# EAGLE library part SDCARDMODULE (library ArduinoMegaShield2)
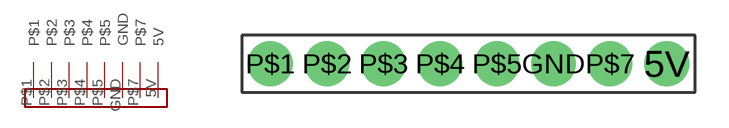
[diagram p3: symbol with the pads of SDCARDMODULE; footprint SDCARDMODULE]

Designator prefix -

## SDCARDMODULE  [SDCARDMODULE]
5V  5V
GND  GND
P$1  P$1
P$2  P$2
P$3  P$3
P$4  P$4
P$5  P$5
P$7  P$7

## Footprint SDCARDMODULE (pad centres in mm)
drill 1.1 pad 2: 5V 8.89,0; GND 3.81,0; P$1 -8.89,0; P$2 -6.35,0; P$3 -3.81,0; P$4 -1.27,0; P$5 1.27,0; P$7 6.35,0